# Altium schematic symbol library Schlib1.SchLib: 3 symbols
Pins are listed as number, name and electrical type; pins without a type are passive.

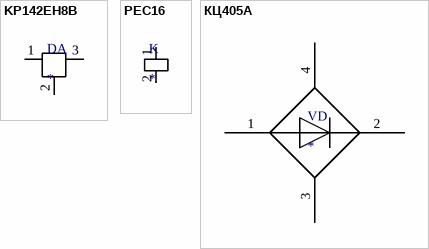
[diagram p0: symbols KP142EH8B to КЦ405A]

## KP142EH8B
designator DA
footprint PCBComponent_1 - duplicate
pins: 1, 2, 3

## PEC16
designator K
footprint PCBComponent_1 - duplicate1
pins: 1, 2

## КЦ405A
designator VD
footprint PCBComponent_1
pins: 1, 2, 3, 4